# Altium footprint library 57875261.PcbLib: 1 footprints
Each footprint in its own frame and in the unit in brackets; x right, y up, seen from the top. Pads: shape width x height; smd on the part's side, far side on the other; paste and mask are expansions set on the pad; w line width, h text height; cw(c..) or ccw(c..) is an arc to the next point about the centre after c.
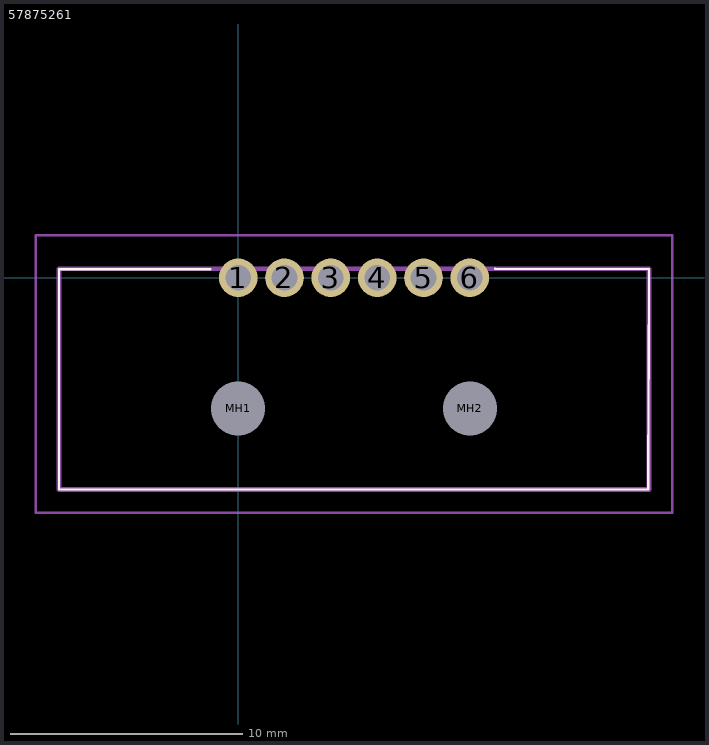
[diagram p0: the footprint, top view; thin cyan lines are the x and y axes]

## 57875261 [mm]
pads (8):
  round 1.665 hole 1.11: 1(0,0) 2(2,0) 3(4,0) 4(6,0) 5(8,0) 6(10,0)
  round 1.16 hole 2.32 unplated: MH1(0,-5.64) MH2(10,-5.64)
Top Overlay:
  lines w0.1: -1.2,0.36 -7.73,0.36 -7.73,-9.14 14.4,-9.14 ; 11.1,0.39 17.73,0.36 17.7,-9.14 14.1,-9.14
Mechanical 15:
  lines w0.2: -7.73,-9.14 17.73,-9.14 17.73,0.39 -7.73,0.39 -7.73,-9.14
Mechanical 20:
  lines w0.1: -8.73,-10.14 18.73,-10.14 18.73,1.833 -8.73,1.833 -8.73,-10.14